# Altium footprint library Diodes.PcbLib: 31 footprints (part 2 of 2)
Each footprint in its own frame and in the unit in brackets; x right, y up, seen from the top. Pads: shape width x height; smd on the part's side, far side on the other; paste and mask are expansions set on the pad; w line width, h text height; cw(c..) or ccw(c..) is an arc to the next point about the centre after c.
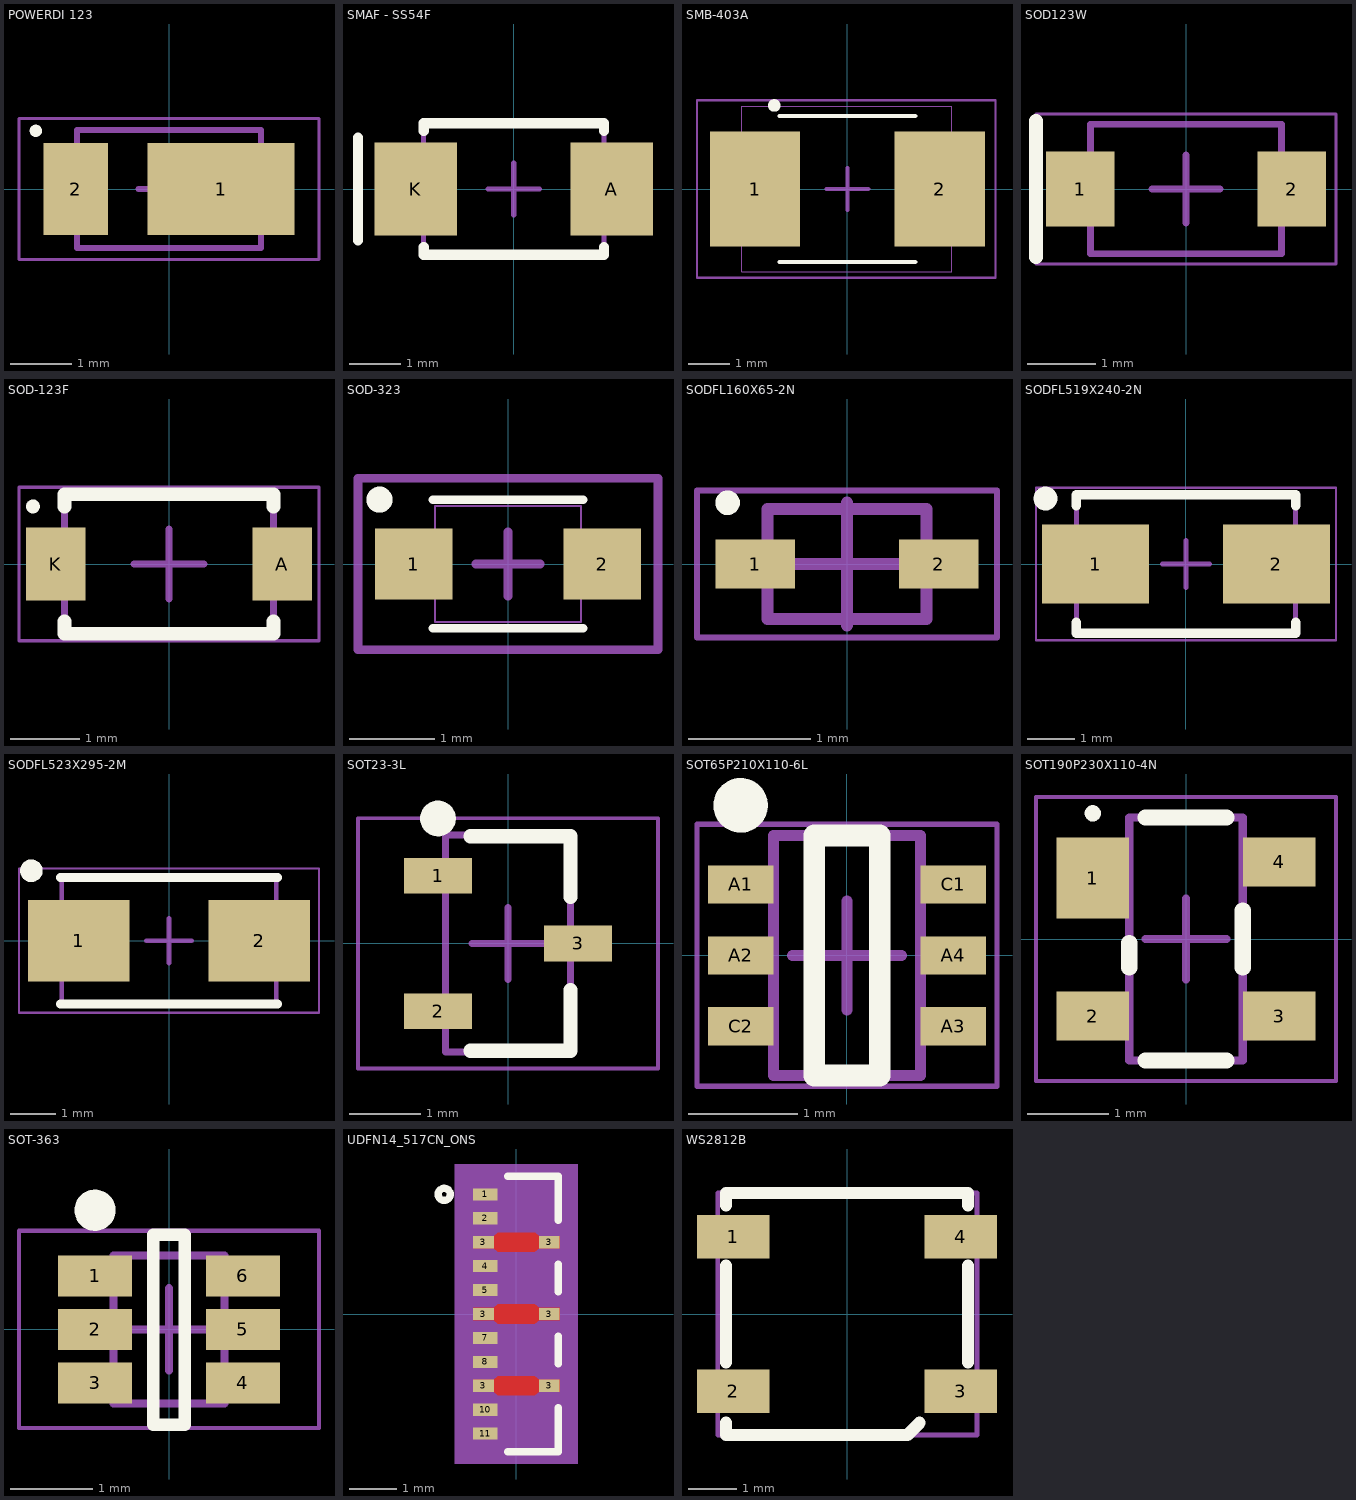
[diagram p1: the footprints below, top view; thin cyan lines are the x and y axes]

## POWERDI 123 [mm] "SODFL, 2-Leads, Body 1.78x3.70mm, IPC Low Density"
height 1
pads (2):
  rect 2.4x1.5 smd: 1(0.85,0)
  rect 1.05x1.5 smd: 2(-1.525,0)
Top Overlay:
  circle w0.1: c-2.175,0.95 r0.05
3D Bodies:
  lines w0.1: -1.5,-0.965 -1.5,0.965 1.5,0.965 1.5,-0.965 -1.5,-0.965
Mechanical 15:
  lines w0.05: -2.45,-1.15 -2.45,1.15 2.45,1.15 2.45,-1.15 -2.45,-1.15
  lines w0.1: -0.5,0 0.5,0 ; 0,-0.5 0,0.5
3D body "POWERDI 123.step": height 1, standoff 0, extent -1.85,-0.965 1.85,0.965

## SMAF - SS54F [mm] "SMAF 2-Leads, Body 2.55x3.50mm, IPC High Density"
height 1.08
pads (2):
  rect 1.6x1.8 smd: A(1.9,0) K(-1.9,0)
Top Overlay:
  lines w0.2: -3.025,-1 -3.025,1 ; -1.75,-1.125 -1.75,-1.275 1.75,-1.275 1.75,-1.125 ; -1.75,1.125 -1.75,1.275 1.75,1.275 1.75,1.125
Top Assembly Dwg:
  lines w0.1: -1.75,-1.275 1.75,-1.275 1.75,1.275 -1.75,1.275 -1.75,-1.275
Mechanical 15:
  lines w0.1: -0.5,0 0.5,0 ; 0,-0.5 0,0.5
3D body "SMAF - SS54F v7.step": height 1, standoff -0.01, extent -2.65,-1.264 2.65,1.264

## SMB-403A [mm] "MBRS2040LT3G Diode"
height 0.99
pads (2):
  rect 2.159x2.743 smd: 1(-2.21,0) 2(2.21,0)
Top Overlay:
  circle w0.15: c-1.75,2 r0.075
  lines w0.1: -1.625,-1.75 1.625,-1.75 ; -1.625,1.75 1.625,1.75
Top Dimensions and Assembly Info:
  lines w0.025: -2.525,-1.975 2.5,-1.975 2.5,1.975 -2.525,1.975 -2.525,-1.975
Mechanical 15:
  lines w0.05: -3.6,-2.125 -3.6,2.125 3.55,2.125 3.55,-2.125 -3.6,-2.125
  lines w0.1: -0.5,0 0.5,0 ; 0,-0.5 0,0.5
  text ".Designator" at -1.956,-0.279 h0.38
3D body "DIOM4336X23N22.step": height 2.28, standoff 0, extent -2.52,-1.975 2.52,1.975

## SOD123W [mm] "SODFL, 2-Leads, Body 1.70x3.50mm, IPC Medium Density"
height 1.1
pads (2):
  rect 1x1.1 smd: 1(-1.55,0) 2(1.55,0)
Top Overlay:
  lines w0.2: -2.2,-1 -2.2,1
3D Bodies:
  lines w0.1: -1.4,-0.95 -1.4,0.95 1.4,0.95 1.4,-0.95 -1.4,-0.95
Mechanical 15:
  lines w0.05: -2.2,-1.1 -2.2,1.1 2.2,1.1 2.2,-1.1 -2.2,-1.1
  lines w0.1: -0.5,0 0.5,0 ; 0,-0.5 0,0.5
3D body "SOD123W (DO-215AD) v2.step": height 1.35, standoff 0, extent -1.925,-0.85 1.925,0.85

## SOD-123F [mm] "SODFL, 2-Leads, Body 1.72x3.60mm, IPC High Density"
height 1.08
pads (2):
  rect 0.85x1.05 smd: A(1.625,0) K(-1.625,0)
Top Overlay:
  circle w0.1: c-1.95,0.825 r0.05
  lines w0.2: -1.5,-0.825 -1.5,-1 1.5,-1 1.5,-0.825 ; -1.5,0.825 -1.5,1 1.5,1 1.5,0.825
Top Assembly Dwg:
  lines w0.1: -1.5,-0.975 -1.5,0.975 1.5,0.975 1.5,-0.975 -1.5,-0.975
Mechanical 15:
  lines w0.05: -2.15,-1.1 -2.15,1.1 2.15,1.1 2.15,-1.1 -2.15,-1.1
  lines w0.1: -0.5,0 0.5,0 ; 0,-0.5 0,0.5
3D body "SOD-123F.step": height 1.08, standoff 0, extent -1.8,-0.975 1.8,0.975

## SOD-323 [mm] "BAT54H Single Shottkey Diode"
pads (2):
  rect 0.9x0.83 smd: 1(-1.1,0) 2(1.1,0)
Top Overlay:
  circle w0.254: c-1.5,0.75 r0.025
  lines w0.1: -0.875,-0.75 0.875,-0.75 ; -0.875,0.75 0.875,0.75
Top Dimensions and Assembly Info:
  lines w0.025: -0.85,-0.675 0.85,-0.675 0.85,0.675 -0.85,0.675 -0.85,-0.675
Mechanical 15:
  lines w0.1: -0.375,0 0.375,0 ; 0,-0.375 0,0.375 ; -1.75,-1 1.75,-1 1.75,1 -1.75,1 -1.75,-1
  text ".Designator" at -1.956,-0.279 h0.38
3D body "SODFL250X80-2N.step": height 0.8, standoff 0, extent -1.25,-0.675 1.25,0.675

## SODFL160X65-2N [mm] "SODFL, 2-Leads, Body 0.80x1.60mm, IPC Medium Density"
height 0.65
pads (2):
  rect 0.65x0.4 smd: 1(-0.75,0) 2(0.75,0)
Top Overlay:
  circle w0.1: c-0.975,0.5 r0.05
3D Bodies:
  lines w0.1: -0.65,-0.45 -0.65,0.45 0.65,0.45 0.65,-0.45 -0.65,-0.45
Mechanical 15:
  lines w0.05: -1.225,-0.6 -1.225,0.6 1.225,0.6 1.225,-0.6 -1.225,-0.6
  lines w0.1: -0.5,0 0.5,0 ; 0,-0.5 0,0.5
3D body: height 0.65, standoff 0, extent -0.65,-0.45 0.65,0.45

## SODFL519X240-2N [mm] "SODFL, 2-Leads, Body 2.60x5.19mm, IPC Medium Density"
height 2.4
pads (2):
  rect 2.25x1.65 smd: 1(-1.9,0) 2(1.9,0)
Top Overlay:
  circle w0.25: c-2.95,1.375 r0.125
  lines w0.2: -2.3,-1.225 -2.3,-1.45 2.3,-1.45 2.3,-1.225 ; -2.3,1.225 -2.3,1.45 2.3,1.45 2.3,1.225
3D Bodies:
  lines w0.1: -2.3,-1.46 -2.3,1.46 2.3,1.46 2.3,-1.46 -2.3,-1.46
Mechanical 15:
  lines w0.05: -3.15,-1.6 -3.15,1.6 3.15,1.6 3.15,-1.6 -3.15,-1.6
  lines w0.1: -0.5,0 0.5,0 ; 0,-0.5 0,0.5
3D body: height 2.4, standoff 0, extent -2.3,-1.46 2.3,1.46

## SODFL523X295-2M [mm] "SODFL, 2-Leads, Body 2.62x5.23mm, IPC Low Density"
height 2.95
pads (2):
  rect 2.25x1.8 smd: 1(-2,0) 2(2,0)
Top Overlay:
  circle w0.25: c-3.05,1.55 r0.125
  lines w0.2: -2.4,-1.4 2.4,-1.4 ; -2.4,1.4 2.4,1.4
3D Bodies:
  lines w0.1: -2.375,-1.42 -2.375,1.42 2.375,1.42 2.375,-1.42 -2.375,-1.42
Mechanical 15:
  lines w0.05: -3.325,-1.6 -3.325,1.6 3.325,1.6 3.325,-1.6 -3.325,-1.6
  lines w0.1: -0.5,0 0.5,0 ; 0,-0.5 0,0.5
3D body "SODFL523X295-2M.step": height 2.95, standoff 0, extent -2.615,-1.42 2.615,1.42

## SOT23-3L [mm] "SOT23, 3-Leads, Body 2.90x2.55mm, Pitch 0.95mm, IPC Medium Density"
height 1.4
pads (3):
  rect 0.95x0.5 smd: 1(-0.98,0.95) 2(-0.98,-0.95) 3(0.98,0)
Top Overlay:
  circle w0.25: c-0.98,1.75 r0.125
  lines w0.2: -0.525,-1.5 0.875,-1.5 0.875,-0.65 ; -0.525,1.5 0.875,1.5 0.875,0.65
3D Bodies:
  lines w0.1: -0.875,-1.52 -0.875,1.52 0.875,1.52 0.875,-1.52 -0.875,-1.52
Mechanical 15:
  lines w0.05: -2.1,-1.75 -2.1,1.75 2.1,1.75 2.1,-1.75 -2.1,-1.75
  lines w0.1: -0.5,0 0.5,0 ; 0,-0.5 0,0.5
3D body "SOT23-3 (1).stp": height 1.2, standoff 0.02, extent -1.418,-1.5 1.418,1.5

## SOT65P210X110-6L [mm] "SOT23, 6-Leads, Body 2.00x2.10mm, Pitch 0.65mm, IPC High Density"
height 1.1
pads (6):
  rect 0.6x0.35 smd: A1(-0.975,0.65) A2(-0.975,0) A3(0.975,-0.65) A4(0.975,0) C1(0.975,0.65) C2(-0.975,-0.65)
Top Overlay:
  circle w0.25: c-0.975,1.375 r0.125
  lines w0.2: -0.3,-1.1 -0.3,1.1 0.3,1.1 0.3,-1.1 -0.3,-1.1
3D Bodies:
  lines w0.1: -0.675,-1.1 0.675,-1.1 0.675,1.1 -0.675,1.1 -0.675,-1.1
Mechanical 15:
  lines w0.05: -1.375,-1.2 1.375,-1.2 1.375,1.2 -1.375,1.2 -1.375,-1.2
  lines w0.1: -0.5,0 0.5,0 ; 0,-0.5 0,0.5
3D body "SOT65P210X110-6L.step": height 1.1, standoff 0, extent -1.1,-1.1 1.1,1.1

## SOT190P230X110-4N [mm] "SOT143, 4-Leads, Body 2.90x2.30mm, Pitch 1.90mm, IPC Medium Density"
height 1.1
pads (4):
  rect 0.9x1 smd: 1(-1.15,0.75)
  rect 0.9x0.6 smd: 2(-1.15,-0.95) 3(1.15,-0.95) 4(1.15,0.95)
Top Layer:
  lines w0.254: -1.16,-0.98 -1.15,-0.97
Top Overlay:
  circle w0.1: c-1.15,1.55 r0.05
  lines w0.2: -0.7,-0.35 -0.7,-0.05 ; -0.5,-1.5 0.5,-1.5 ; -0.5,1.5 0.5,1.5 ; 0.7,-0.35 0.7,0.35
3D Bodies:
  lines w0.1: -0.7,-1.5 0.7,-1.5 0.7,1.5 -0.7,1.5 -0.7,-1.5
Mechanical 15:
  lines w0.05: -1.85,-1.75 1.85,-1.75 1.85,1.75 -1.85,1.75 -1.85,-1.75
  lines w0.1: -0.5,0 0.5,0 ; 0,-0.5 0,0.5
3D body: height 1.1, standoff 0.09, extent -0.7,-1.5 0.7,1.5

## SOT-363 [mm] "SOT363 6 pin"
height 1.1
pads (6):
  rect 0.9x0.5 smd: 1(-0.9,0.65) 2(-0.9,0) 3(-0.9,-0.65) 4(0.9,-0.65) 5(0.9,0) 6(0.9,0.65)
Top Overlay:
  circle w0.25: c-0.9,1.45 r0.125
  lines w0.154: -0.19,-1.16 -0.19,1.15 0.19,1.15 0.19,-1.16 -0.19,-1.16
3D Bodies:
  lines w0.1: -0.675,-0.9 0.675,-0.9 0.675,0.9 -0.675,0.9 -0.675,-0.9
Mechanical 15:
  lines w0.05: -1.825,-1.2 1.825,-1.2 1.825,1.2 -1.825,1.2 -1.825,-1.2
  lines w0.1: -0.5,0 0.5,0 ; 0,-0.5 0,0.5
3D body: height 1.1, standoff 0.1, extent -0.675,-0.9 0.675,0.9

## UDFN14_517CN_ONS [mil]
pads (14):
  rect 20x10 smd paste-5 mask+0: 1(-25.6,98.5) 2(-25.6,78.8) 4(-25.6,39.4) 5(-25.6,19.7) 7(-25.6,-19.7) 8(-25.6,-39.4) 10(-25.6,-78.8) 11(-25.6,-98.5)
  rect 17x10 smd: 3(-27.1,-59.1) 3(-27.1,0) 3(-27.1,59.1) 3(27.1,-59.1) 3(27.1,0) 3(27.1,59.1)
Top Layer:
  region: -35.6,-64.1 -35.6,-54.1 -18.6,-54.1 -15.3,-51.1 15.3,-51.1 18.6,-54.1 35.6,-54.1 35.6,-64.1 18.6,-64.1 15.3,-67.1 -15.3,-67.1 -18.6,-64.1
  region: 15.3,8 -15.3,8 -18.6,5 -35.6,5 -35.6,-5 -18.6,-5 -15.3,-8 15.3,-8 18.6,-5 35.6,-5 35.6,5 18.6,5
  region: -35.6,54.1 -35.6,64.1 -18.6,64.1 -15.36,67.05 15.36,67.05 18.6,64.1 35.6,64.1 35.6,54.1 18.6,54.1 15.3,51.1 -15.3,51.1 -18.6,54.1
Top Overlay:
  circle w6: c-59.45,98.5 r5
  lines w6: -7.14,-113.5 34.5,-113.5 34.5,-77.2 ; -7.14,113.5 34.5,113.5 34.5,77.2 ; 34.5,-41 34.5,-18.1 ; 34.5,18.1 34.5,41
Top Paste:
  region: -35.6,54.1 -35.6,64.1 -18.6,64.1 -15.3,67.1 15.3,67.1 18.6,64.1 35.6,64.1 35.6,54.1 18.6,54.1 15.3,51.1 -15.3,51.1 -18.6,54.1
  region: 15.3,8 -15.3,8 -18.6,5 -35.6,5 -35.6,-5 -18.6,-5 -15.3,-8 15.3,-8 18.6,-5 35.6,-5 35.6,5 18.6,5
  region: -35.6,-64.1 -35.6,-54.1 -18.6,-54.1 -15.3,-51.1 15.3,-51.1 18.6,-54.1 35.6,-54.1 35.6,-64.1 18.6,-64.1 15.3,-67.1 -15.3,-67.1 -18.6,-64.1
Top Solder:
  region: -35.6,54.1 -35.6,64.1 -18.6,64.1 -15.36,67.05 15.36,67.05 18.6,64.1 35.6,64.1 35.6,54.1 18.6,54.1 15.3,51.1 -15.3,51.1 -18.6,54.1
  region: 15.3,8 -15.3,8 -18.6,5 -35.6,5 -35.6,-5 -18.6,-5 -15.3,-8 15.3,-8 18.6,-5 35.6,-5 35.6,5 18.6,5
  region: -35.6,-64.1 -35.6,-54.1 -18.6,-54.1 -15.3,-51.1 15.3,-51.1 18.6,-54.1 35.6,-54.1 35.6,-64.1 18.6,-64.1 15.3,-67.1 -15.3,-67.1 -18.6,-64.1
Top Dimensions and Assembly Info:
  region: 50.6,-123.5 -50.6,-123.5 -50.6,123.5 50.6,123.5
3D Bodies:
  circle w0: c-15.6,98.5 r3
  lines w0: -12,108.5 ccw(c0,108.5) 12,108.5
  lines w1: -29.5,-108.5 29.5,-108.5 29.5,108.5 -29.5,108.5 -29.5,-108.5
Mechanical 15:
  region: -39.5,-113.5 -45.6,-113.5 -45.6,113.5 -39.5,113.5 -39.5,118.5 39.5,118.5 39.5,113.5 45.6,113.5 45.6,-113.5 39.5,-113.5 39.5,-118.5 -39.5,-118.5
  lines w6: -45.6,-113.5 -45.6,113.5 -39.5,113.5 -39.5,118.5 39.5,118.5 39.5,113.5 45.6,113.5 45.6,-113.5 39.5,-113.5 39.5,-118.5 -39.5,-118.5 -39.5,-113.5 -45.6,-113.5
3D body "ESD8008 v3.step": height 19.68, standoff 0, extent -29.53,-108.27 29.53,108.27

## WS2812B [mm] "WS2812 Individually Addressable LED"
pads (4):
  rect 1.5x0.9 smd: 1(-2.35,1.6) 2(-2.35,-1.6) 3(2.35,-1.6) 4(2.35,1.6)
Top Overlay:
  lines w0.254: -2.5,-2.25 -2.5,-2.5 -2.25,-2.5 1.25,-2.5 1.5,-2.25 ; -2.5,-1 -2.5,1 ; -2.5,2.25 -2.5,2.5 -2.25,2.5 2.25,2.5 2.5,2.5 2.5,2.25 ; 2.5,-1 2.5,1
3D Bodies:
  lines w0.1: -2.67,-2.5 -2.67,2.5 2.69,2.5 2.69,-2.5 -2.67,-2.5
Mechanical 15:
  lines w0.1: -2.67,-2.5 -2.67,2.5 2.69,2.5 2.69,-2.5 -2.67,-2.5
3D body "WS2812_RGB_LED_updated.stp": height 1.71, standoff 0.01, extent -2.675,-2.475 2.675,2.475